# Altium schematic symbol library PSR500HTQFJ2L00.SchLib: 2 symbols
Pins are listed as number, name and electrical type; pins without a type are passive.

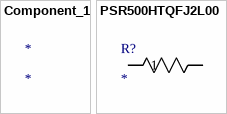
[diagram p0: symbols Component_1 to PSR500HTQFJ2L00]

## Component_1
designator *

## PSR500HTQFJ2L00
designator R?
No Description Available; Mfr_Name: ROHM Semiconductor
footprint RES_PSR500_ROM
pins: 1, 2